# Altium footprint library PcbLib1.PcbLib: 2 footprints
Each footprint in its own frame and in the unit in brackets; x right, y up, seen from the top. Pads: shape width x height; smd on the part's side, far side on the other; paste and mask are expansions set on the pad; w line width, h text height; cw(c..) or ccw(c..) is an arc to the next point about the centre after c.
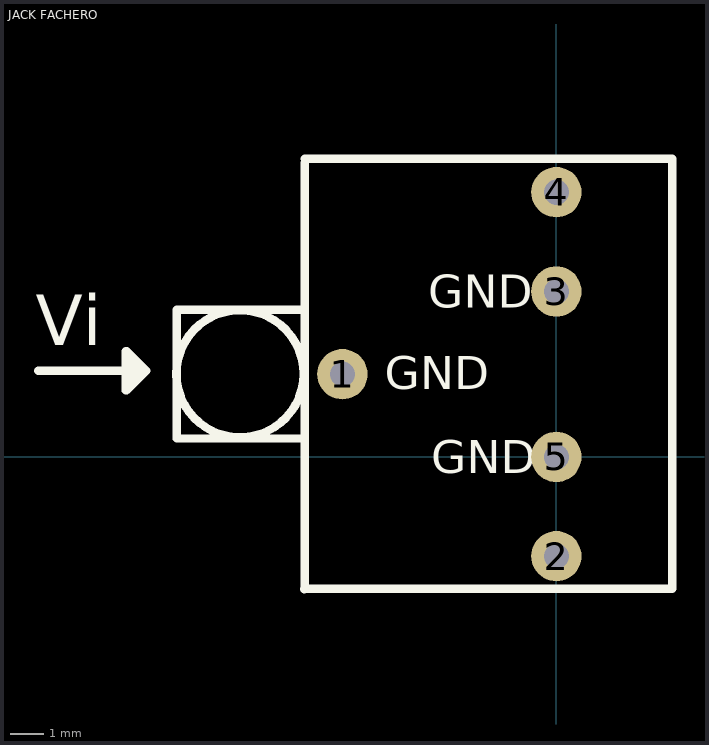
[diagram p0: the footprints below, top view; thin cyan lines are the x and y axes]

## JACK FACHERO [mil]
pads (5):
  round 60 hole 30: 1(-254.63,98.43) 2(0,-118.11) 3(0,196.85) 4(0,314.96) 5(0,0)
Top Overlay:
  circle w10: c-376.48,98.92 r75.69
  lines w10: -616.55,102.51 -488.22,102.51 ; -512.41,79.07 -512.41,118.63 ; -511.55,79.18 -488.22,102.51 ; -508.97,102.51 -499.84,102.51 ; -499.84,90.89 -499.84,111.65 ; -300.48,174.92 -451.48,174.92 -451.48,21.92 -299.48,21.92 ; -299.88,-157.49 -299.35,-156.96 -299.35,240.2 -299.35,349.86 ; -299.88,-156.98 137.8,-156.98 137.8,354.83 -299.35,354.83 ; -512.41,118.63 -512.57,118.78 -512.57,125.63 -511.17,125.63 -488.22,102.68 -488.22,102.51 ; -512.41,118.63 -511.55,119.49 -511.55,84.66 -508.97,82.08 -508.97,120.78 -490.71,102.51 -489.85,102.51 -488.22,102.51
  text "Vi" at -619.41,133.09 h60
  text "GND" at -152.19,177.22 h39.37
  text "GND" at -148.83,-19.65 h39.37
  text "GND" at -204.51,80.36 h39.37

## pote god [mil]